# Altium footprint library Switches.PcbLib: 2 footprints
Each footprint in its own frame and in the unit in brackets; x right, y up, seen from the top. Pads: shape width x height; smd on the part's side, far side on the other; paste and mask are expansions set on the pad; w line width, h text height; cw(c..) or ccw(c..) is an arc to the next point about the centre after c.
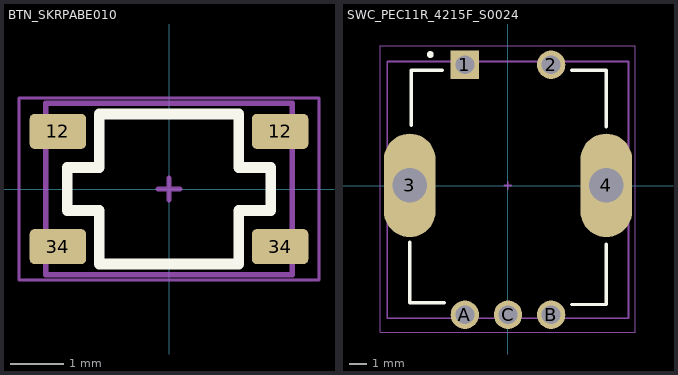
[diagram p0: the footprints below, top view; thin cyan lines are the x and y axes]

## BTN_SKRPABE010 [mm]
pads (4):
  rrect25% 1.05x0.65 smd: 12(-2.075,1.075) 12(2.075,1.075) 34(-2.075,-1.075) 34(2.075,-1.075)
Top Overlay:
  lines w0.2: -1.9,-0.4 -1.9,0.4 -1.3,0.4 -1.3,1.4 1.3,1.4 1.3,0.4 1.9,0.4 1.9,-0.4 1.3,-0.4 1.3,-1.4 -1.3,-1.4 -1.3,-0.4 -1.9,-0.4
Top Component Center:
  lines w0.1: -0.2,0 0,0 ; 0,-0.2 0,0 ; 0,0.2 0,0 ; 0.2,0 0,0
Top Assembly:
  lines w0.1: -2.3,-1.6 -2.3,1.6 2.3,1.6 2.3,-1.6 -2.3,-1.6
Top Designator:
  text ".Designator" at -7.618,-0.508 h1.52
Top 3D Body (Mech13):
  lines w0.05: -2.8,-1.7 2.8,-1.7 2.8,1.7 -2.8,1.7 -2.8,-1.7
Top Courtyard (Mech15):
  lines w0.05: -2.8,-1.7 -2.8,1.7 -1.7,1.7 2.8,1.7 2.8,-1.7 1,-1.7 -2.8,-1.7
3D body "SKRPANE010.step": height 2.51, standoff 0.01, extent -2.3,-1.6 2.3,1.6

## SWC_PEC11R_4215F_S0024 [mm]
pads (7):
  rect 1.65x1.65 hole 1.1: 1(-2.491,7.007)
  round 1.65 hole 1.1: 2(2.509,7.007) A(-2.491,-7.493) B(2.509,-7.493) C(0.009,-7.493)
  oval 3x6 hole 2 square: 3(-5.691,0.007) 4(5.709,0.007)
Top Overlay:
  circle w0.2: c-4.5,7.6 r0.1
  lines w0.2: -5.7,-3.3 -5.7,-6.8 -3.7,-6.8 ; -5.6,3.5 -5.6,6.7 -3.8,6.7 ; 3.7,-6.9 5.7,-6.9 5.7,-3.4 ; 3.7,6.7 5.2,6.7 5.7,6.7 5.7,3.4
Top Component Center:
  lines w0.1: -0.2,0 0,0 ; 0,-0.2 0,0 ; 0,0.2 0,0 ; 0.2,0 0,0
Top Assembly:
  lines w0.1: -7,-7.7 7,-7.7 7,7.2 -7,7.2 -7,-7.7
Top Designator:
  text ".Designator" at -7.608,-0.751 h1.52
Top Courtyard (Mech15):
  lines w0.05: -7.4,-8.5 7.4,-8.5 7.4,8.1 -7.4,8.1 -7.4,-8.5
3D body "SW-PEC11R-4220F-S0024.stp": height 26.6, standoff -3.6, extent -6.998,-7.7 6.998,7.2